# Altium schematic symbol library SCH - DRIVER - LED - TI TPS92690PWP.SchLib: 1 symbol
Pins are listed as number, name and electrical type; pins without a type are passive.

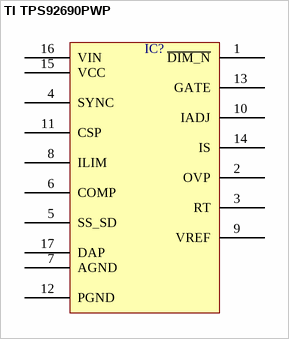
[diagram p0: symbol TI TPS92690PWP]

## TI TPS92690PWP
designator IC?  (value not drawn)
pins: 1 ~{DIM_N}, 2 OVP, 3 RT, 4 SYNC, 5 SS_SD, 6 COMP, 7 AGND, 8 ILIM, 9 VREF, 10 IADJ, 11 CSP, 12 PGND, 13 GATE, 14 IS, 15 VCC, 16 VIN, 17 DAP